# Altium footprint library digital_potentiometer.PcbLib: 1 footprints
Each footprint in its own frame and in the unit in brackets; x right, y up, seen from the top. Pads: shape width x height; smd on the part's side, far side on the other; paste and mask are expansions set on the pad; w line width, h text height; cw(c..) or ccw(c..) is an arc to the next point about the centre after c.
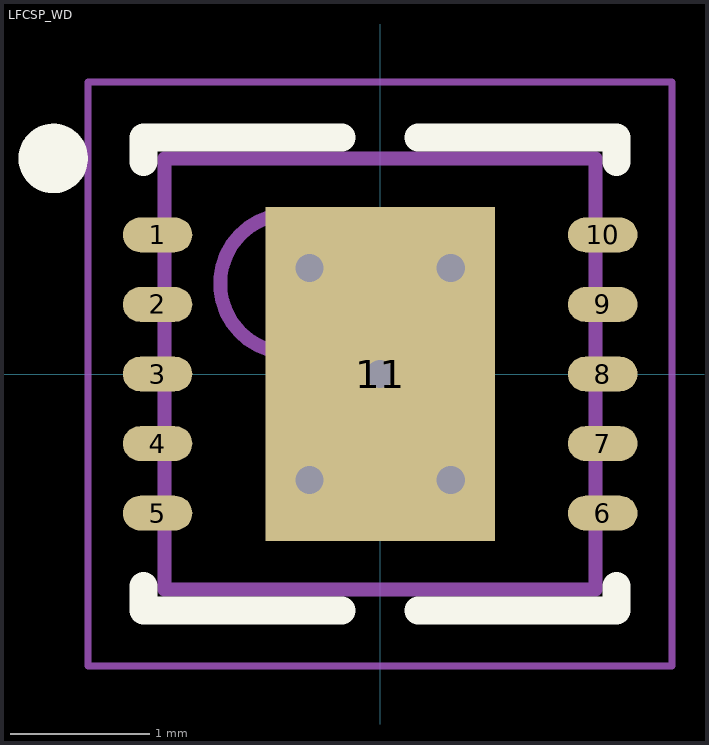
[diagram p0: the footprint, top view; thin cyan lines are the x and y axes]

## LFCSP_WD [mm] "QFN, 10-Leads, Body 3.00x3.00mm, Pitch 0.50mm, Thermal Pad 1.63x2.36mm, IPC Medium Density"
height 0.8
pads (11):
  oval 0.5x0.25 smd: 1(-1.6,1) 2(-1.6,0.5) 3(-1.6,0) 4(-1.6,-0.5) 5(-1.6,-1) 6(1.6,-1) 7(1.6,-0.5) 8(1.6,0) 9(1.6,0.5) 10(1.6,1)
  rect 1.65x2.4 smd: 11(0,0)
via 0.508,-0.762 diameter 0.559 hole 0.203
via -0.508,-0.762 diameter 0.559 hole 0.203
via 0.508,0.762 diameter 0.559 hole 0.203
via -0.508,0.762 diameter 0.559 hole 0.203
via 0,0 diameter 0.559 hole 0.203
Top Overlay:
  circle w0.25: c-2.35,1.55 r0.125
  lines w0.2: -1.7,-1.525 -1.7,-1.7 -0.275,-1.7 ; -1.7,1.525 -1.7,1.7 -0.275,1.7 ; 0.275,-1.7 1.7,-1.7 1.7,-1.525 ; 0.275,1.7 1.7,1.7 1.7,1.525
Mechanical 13:
  circle w0.1: c-0.65,0.65 r0.5
  lines w0.1: -1.55,-1.55 1.55,-1.55 1.55,1.55 -1.55,1.55 -1.55,-1.55
Mechanical 15:
  lines w0.05: -2.1,-2.1 2.1,-2.1 2.1,2.1 -2.1,2.1 -2.1,-2.1
  lines w0.1: -0.5,0 0.5,0 ; 0,-0.5 0,0.5
3D body: height 0.8, standoff 0.02, extent -1.55,-1.55 1.55,1.55